# Altium schematic symbol library usb.SchLib: 6 symbols
Pins are listed as number, name and electrical type; pins without a type are passive.

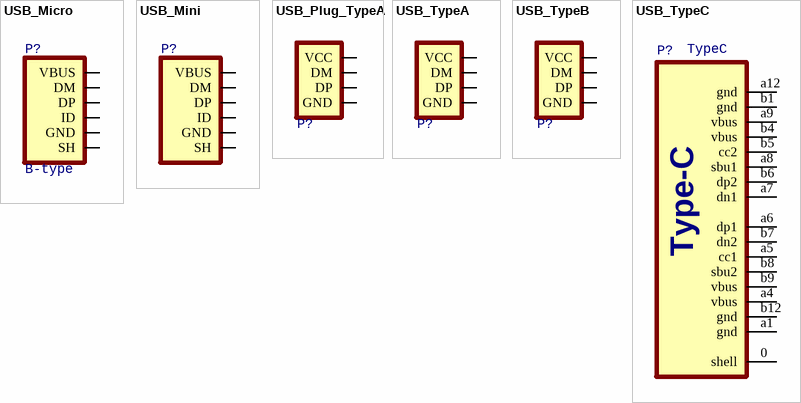
[diagram p0: symbols USB_Micro to USB_TypeC]

## USB_Micro
designator P?, comment Type: B-type  (hidden comment: MicroUSB)
USB
footprint USB_Micro-AB
footprint USB_Micro-B
footprint USB_Micro-A
footprint USB_MICRO_VERTIAL
pins: 0 SH, 1 VBUS, 2 DM, 3 DP, 4 ID, 5 GND

## USB_Mini
designator P?, comment MiniUSB  (value not drawn)
USB
footprint USB_Mini-B
pins: 0 SH, 1 VBUS, 2 DM, 3 DP, 4 ID, 5 GND

## USB_Plug_TypeA
designator P?  (value not drawn)
USB
footprint USB_Plug_TypeA_PCB
footprint USB_Plug_TypeA
pins: 1 VCC, 2 DM, 3 DP, 4 GND

## USB_TypeA
designator P?  (value not drawn)
USB
footprint USB_TypeA
pins: 1 VCC, 2 DM, 3 DP, 4 GND

## USB_TypeB
designator P?  (value not drawn)
USB
footprint USB_TypeB
pins: 1 VCC, 2 DM, 3 DP, 4 GND

## USB_TypeC
designator P?, comment TypeC
USB type-c cable
footprint USB_TypeC
pins: 0 shell, a1 gnd, a4 vbus, a5 cc1, a6 dp1, a7 dn1, a8 sbu1, a9 vbus, a12 gnd, b1 gnd, b4 vbus, b5 cc2, b6 dp2, b7 dn2, b8 sbu2, b9 vbus, b12 gnd
text: Type-C